# Altium schematic symbol library 四旋翼原理图库.SchLib: 18 symbols
Pins are listed as number, name and electrical type; pins without a type are passive.

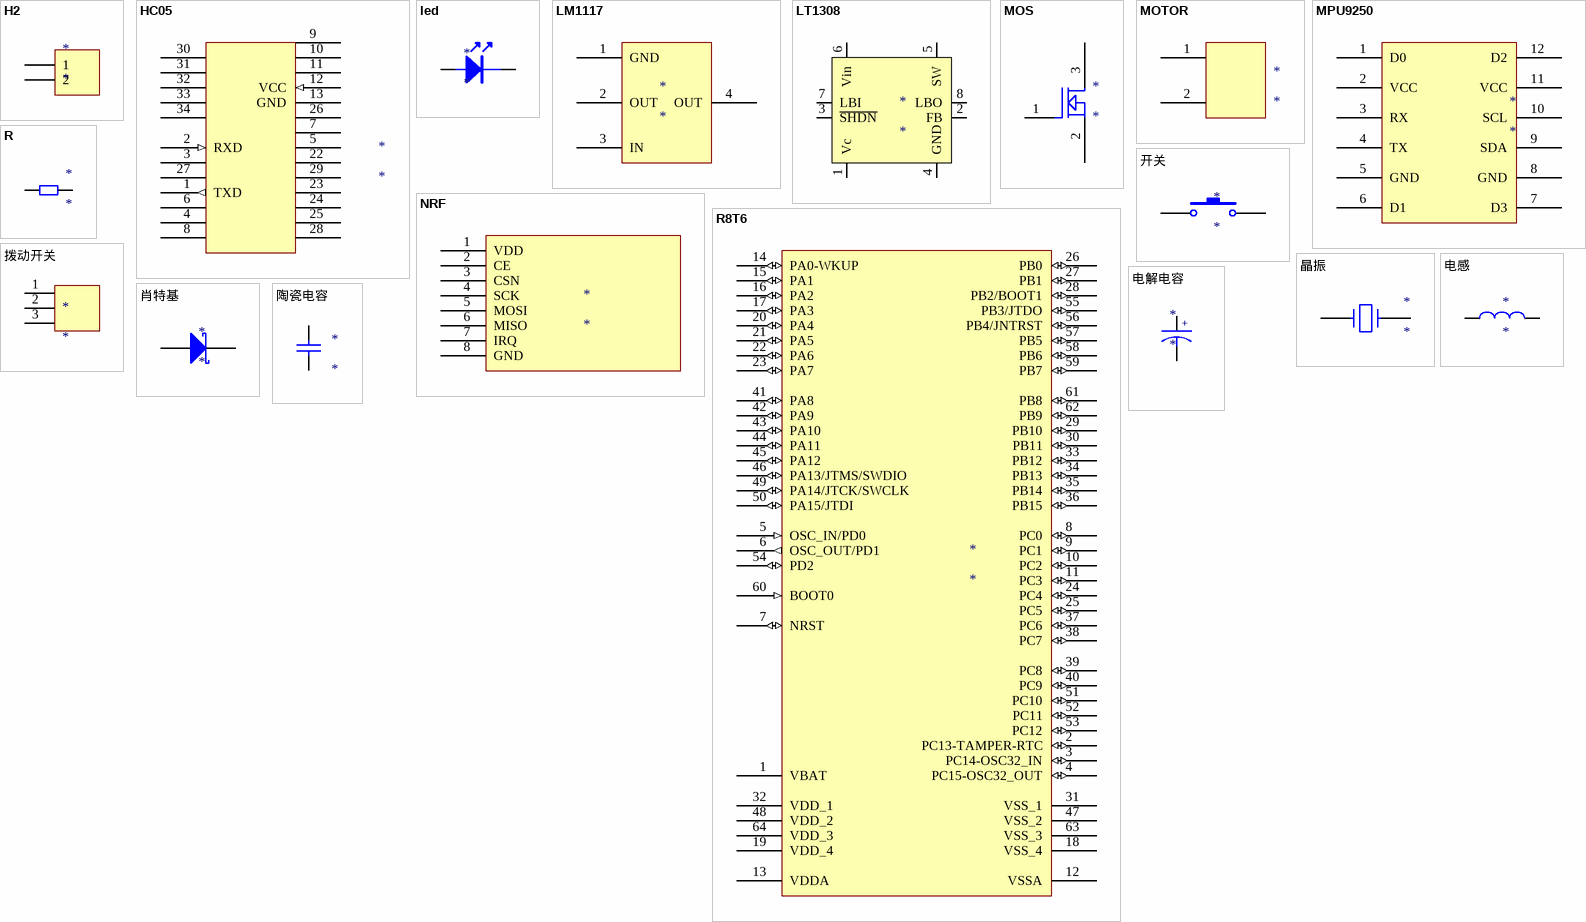
[diagram p0: symbols H2 to 陶瓷电容]

## H2
designator *
pins: 1, 2

## HC05
designator *
pins: 1 TXD (out), 2 RXD (in), 3, 4, 5, 6, 7, 8, 9, 10, 11, 12 VCC (in), 13 GND, 22, 23, 24, 25, 26, 27, 28, 29, 30, 31, 32, 33, 34

## led
designator *
pins: 1, 2

## LM1117
designator *
pins: 1 GND, 2 OUT, 3 IN, 4 OUT

## LT1308
designator *
pins: 1 Vc, 2 FB, 3 ~{SHDN}, 4 GND, 5 SW, 6 Vin, 7 LBI, 8     LBO

## MOS
designator *
pins: 1, 2, 3

## MOTOR
designator *
pins: 1, 2

## MPU9250
designator *
pins: 1 D0, 2 VCC, 3 RX, 4 TX, 5 GND, 6 D1, 7 D3, 8 GND, 9 SDA, 10 SCL, 11 VCC, 12 D2

## NRF
designator *
pins: 1 VDD, 2 CE, 3 CSN, 4 SCK, 5 MOSI, 6 MISO, 7 IRQ, 8 GND

## R
designator *
pins: 1, 2

## R8T6
designator *
pins: 1 VBAT (power), 2 PC13-TAMPER-RTC (io), 3 PC14-OSC32_IN (io), 4 PC15-OSC32_OUT (io), 5 OSC_IN/PD0 (in), 6 OSC_OUT/PD1 (out), 7 NRST (io), 8 PC0 (io), 9 PC1 (io), 10 PC2 (io), 11 PC3 (io), 12 VSSA (power), 13 VDDA (power), 14 PA0-WKUP (io), 15 PA1 (io), 16 PA2 (io), 17 PA3 (io), 18 VSS_4 (power), 19 VDD_4 (power), 20 PA4 (io), 21 PA5 (io), 22 PA6 (io), 23 PA7 (io), 24 PC4 (io), 25 PC5 (io), 26 PB0 (io), 27 PB1 (io), 28 PB2/BOOT1 (io), 29 PB10 (io), 30 PB11 (io), 31 VSS_1 (power), 32 VDD_1 (power), 33 PB12 (io), 34 PB13 (io), 35 PB14 (io), 36 PB15 (io), 37 PC6 (io), 38 PC7 (io), 39 PC8 (io), 40 PC9 (io), 41 PA8 (io), 42 PA9 (io), 43 PA10 (io), 44 PA11 (io), 45 PA12 (io), 46 PA13/JTMS/SWDIO (io), 47 VSS_2 (power), 48 VDD_2 (power), 49 PA14/JTCK/SWCLK (io), 50 PA15/JTDI (io), 51 PC10 (io), 52 PC11 (io), 53 PC12 (io), 54 PD2 (io), 55 PB3/JTDO (io), 56 PB4/JNTRST (io), 57 PB5 (io), 58 PB6 (io), 59 PB7 (io), 60 BOOT0 (in), 61 PB8 (io), 62 PB9 (io), 63 VSS_3 (power), 64 VDD_3 (power)

## 开关
designator *
pins: 1, 2

## 拨动开关
designator *
pins: 1, 2, 3

## 晶振
designator *
pins: 1, 2

## 电感
designator *
pins: 1, 2

## 电解电容
designator *
pins: 1, 2
text: +

## 肖特基
designator *
pins: 1 A, 2 K

## 陶瓷电容
designator *
pins: 1, 2